# Altium schematic symbol library Transistor Schematics.SchLib: 8 symbols
Pins are listed as number, name and electrical type; pins without a type are passive.

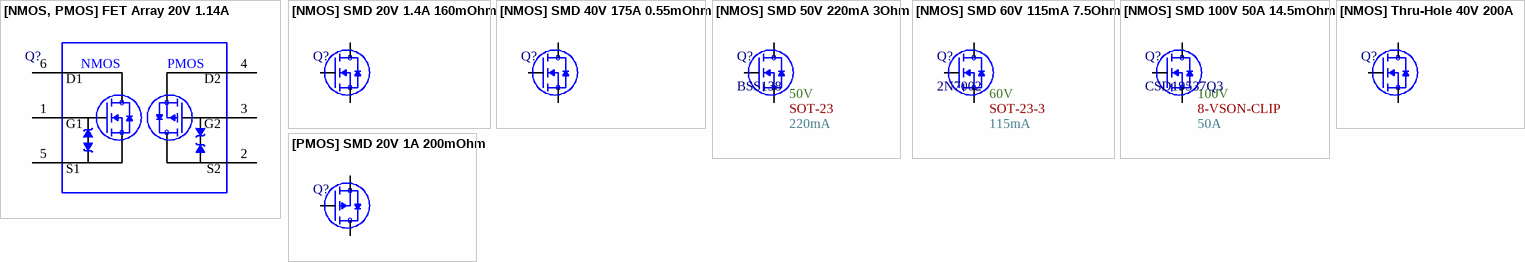
[diagram p0: symbols [NMOS, PMOS] FET Array 20V 1.14A to [PMOS] SMD 20V 1A 200mOhm]

## [NMOS, PMOS] FET Array 20V 1.14A
designator Q?, comment N/PMOS  (value not drawn)
DMC2700UDM-7; Supplier 1: DigiKey; Supplier Part Number 1: DMC2700UDM-7DKR-ND
footprint SOT-26
pins: 1 G1, 2 S2, 3 G2, 4 D2, 5 S1, 6 D1
text: NMOS; PMOS

## [NMOS] SMD 20V 1.4A 160mOhm
designator Q?  (value not drawn)
BSS816NWH6327XTSA1; Supplier 1: DigiKey; Supplier Part Number 1: BSS816NWH6327XTSA1CT-ND
footprint SOT323
pins: 1 Gate, 2 Source, 3 Drain

## [NMOS] SMD 40V 175A 0.55mOhm
designator Q?  (value not drawn)
IAUCN04S7N005ATMA1; Supplier 1: DigiKey; Supplier Part Number 1: 448-IAUCN04S7N005ATMA1CT-ND
footprint [NMOS] SMD 40V 175A 0.55mOhm (IAUCN04S7N005ATMA1)
pins: 1 Source, 2 Gate, 3 Drain

## [NMOS] SMD 50V 220mA 3Ohm
designator Q?, comment BSS138  IDS_Max: 220mA  Package: SOT-23  VDS_Max: 50V
Supplier 1: DigiKey; Supplier Part Number 1: BSS138DKR-ND
footprint SOT-23
pins: 1 Gate, 2 Source, 3 Drain

## [NMOS] SMD 60V 115mA 7.5Ohm
designator Q?, comment 2N7002  IDS_Max: 115mA  Package: SOT-23-3  VDS_Max: 60V
Supplier 1: DigiKey; Supplier Part Number 1: 2N7002NDKR-ND
footprint SOT-23
pins: 1 Gate, 2 Source, 3 Drain

## [NMOS] SMD 100V 50A 14.5mOhm
designator Q?, comment CSD19537Q3  IDS_Max: 50A  Package: 8-VSON-CLIP  VDS_Max: 100V
Supplier 1: DigiKey; Supplier Part Number 1: 296-44351-6-ND
footprint 8-VSON-CLIP
pins: 1 Gate, 2 Source, 3 Drain

## [NMOS] Thru-Hole 40V 200A
designator Q?, comment NMOS  (value not drawn)
CSD18510KCS; Supplier 1: DigiKey; Supplier Part Number 1: 296-47695-ND
footprint [NMOS] Thru-Hole 40V 200A (CSD18510KCS)
pins: 1 Gate, 2 Source, 3 Drain

## [PMOS] SMD 20V 1A 200mOhm
designator Q?  (value not drawn)
PMF170XP,115; Supplier 1: DigiKey; Supplier Part Number 1: 1727-1229-6-ND
footprint SOT323
pins: 1 Gate, 2 Source, 3 Drain